# EAGLE library part MF2X7M (library gost_con_mini-fit)
Molex Mini-Fit Jr.™ Connectors
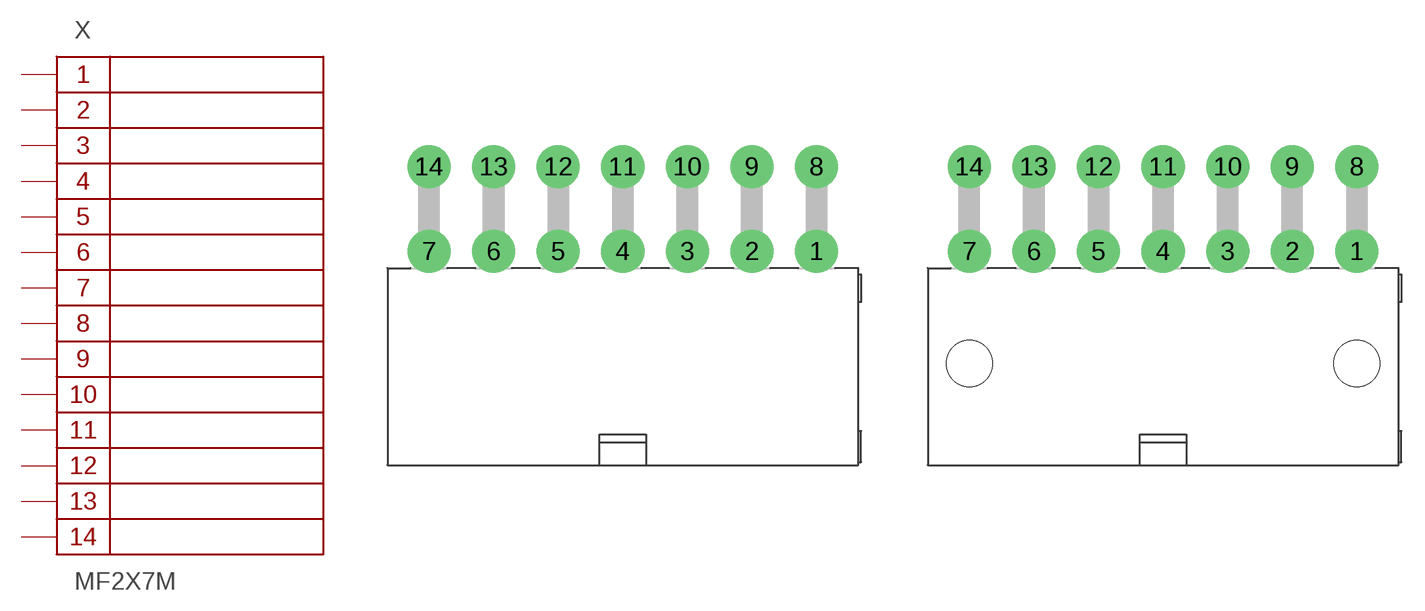
[diagram p7: symbol with the pads of MF2X7MR; footprints MF2X7MR, MF2X7MRA]

Designator prefix X

## MF2X7MR  [MF2X7MR]
1  1
2  2
3  3
4  4
5  5
6  6
7  7
8  8
9  9
10  10
11  11
12  12
13  13
14  14

## MF2X7MRA  [MF2X7MRA]
Pads as for MF2X7MR

## MF2X7MA  [MF2X7MA]
Pads as for MF2X7MR

## MF2X7MRB  [MF2X7MRB]
Pads as for MF2X7MR

## Footprint MF2X7MR (pad centres in mm)
drill 1.8 pad 2.8: 1 12.6,-2.1; 2 8.4,-2.1; 3 4.2,-2.1; 4 0,-2.1; 5 -4.2,-2.1; 6 -8.4,-2.1; 7 -12.6,-2.1; 8 12.6,3.4; 9 8.4,3.4; 10 4.2,3.4; 11 0,3.4; 12 -4.2,3.4; 13 -8.4,3.4; 14 -12.6,3.4

## Footprint MF2X7MRA (pad centres in mm)
drill 1.8 pad 2.8: 1 12.6,-2.1; 2 8.4,-2.1; 3 4.2,-2.1; 4 0,-2.1; 5 -4.2,-2.1; 6 -8.4,-2.1; 7 -12.6,-2.1; 8 12.6,3.4; 9 8.4,3.4; 10 4.2,3.4; 11 0,3.4; 12 -4.2,3.4; 13 -8.4,3.4; 14 -12.6,3.4
hole 3 at -12.6,-9.4
hole 3 at 12.6,-9.4

## Footprint MF2X7MA (pad centres in mm)
drill 1.4 pad 2.6: 1 12.6,-2.75; 2 8.4,-2.75; 3 4.2,-2.75; 4 0,-2.75; 5 -4.2,-2.75; 6 -8.4,-2.75; 7 -12.6,-2.75; 8 12.6,2.75; 9 8.4,2.75; 10 4.2,2.75; 11 0,2.75; 12 -4.2,2.75; 13 -8.4,2.75; 14 -12.6,2.75

## Footprint MF2X7MRB (pad centres in mm)
drill 1.8 pad 2.8: 1 12.6,-2.1; 2 8.4,-2.1; 3 4.2,-2.1; 4 0,-2.1; 5 -4.2,-2.1; 6 -8.4,-2.1; 7 -12.6,-2.1; 8 12.6,3.4; 9 8.4,3.4; 10 4.2,3.4; 11 0,3.4; 12 -4.2,3.4; 13 -8.4,3.4; 14 -12.6,3.4
hole 2.4 at 17.2,-6.3
hole 2.4 at -17.2,-6.3